# Altium footprint library PassiveSMD.PcbLib: 8 footprints
Each footprint in its own frame and in the unit in brackets; x right, y up, seen from the top. Pads: shape width x height; smd on the part's side, far side on the other; paste and mask are expansions set on the pad; w line width, h text height; cw(c..) or ccw(c..) is an arc to the next point about the centre after c.
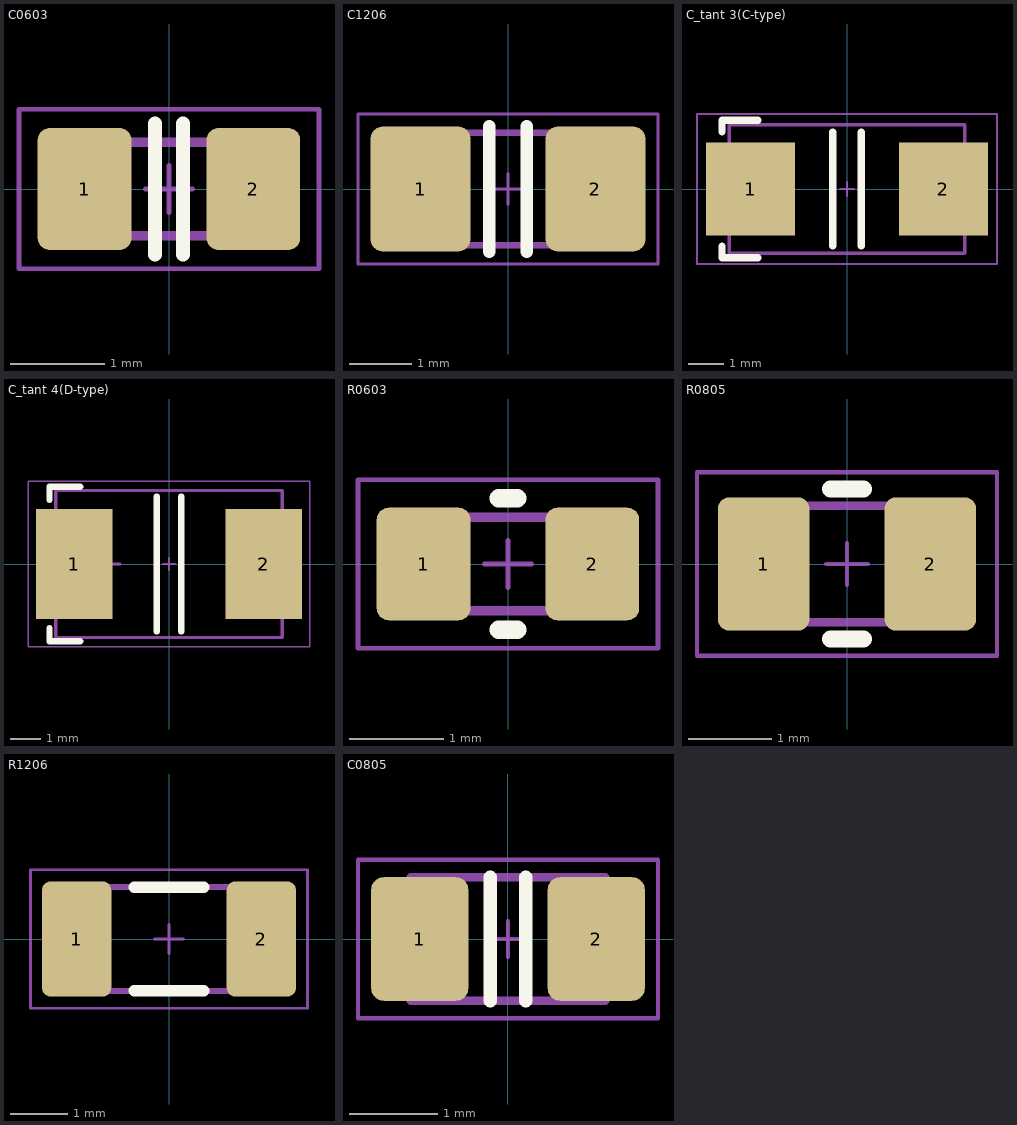
[diagram p0: the footprints below, top view; thin cyan lines are the x and y axes]

## C0603 [mm] "Chip Capasitor (0603), 2-Leads, Body 1,63x0,85mm, IPC Medium Density"
height 1.2
pads (2):
  rrect25% 1x1.3 smd: 1(-0.9,0) 2(0.9,0)
Top Overlay:
  lines w0.15: -0.15,-0.7 -0.15,0.7 ; 0.15,-0.7 0.15,0.7
Mechanical 13:
  lines w0.1: -0.9,-0.5 -0.9,0.5 0.9,0.5 0.9,-0.5 -0.9,-0.5
  text ".Designator" at -1.75,-1.5 h1
Mechanical 15:
  lines w0.05: -0.25,0 0.25,0 ; 0,-0.25 0,0.25 ; -1.6,-0.85 1.6,-0.85 1.6,0.85 -1.6,0.85 -1.6,-0.85
3D body: height 0.9, standoff 0, extent -0.9,-0.5 0.9,0.5

## C1206 [mm] "Chip Capacitor (1206), 2-Leads, Body 3,2x1,6mm, IPC Medium Density"
height 1.8
pads (2):
  rrect25% 1.6x2 smd: 1(-1.4,0) 2(1.4,0)
Top Overlay:
  lines w0.2: -0.3,-1 -0.3,1 ; 0.3,-1 0.3,1
Mechanical 13:
  lines w0.1: -1.7,-0.9 1.7,-0.9 1.7,0.9 -1.7,0.9 -1.7,-0.9
  text ".Designator" at -1.75,-2 h1
Mechanical 15:
  lines w0.05: -0.25,0 0.25,0 ; 0,-0.25 0,0.25 ; -2.4,-1.2 2.4,-1.2 2.4,1.2 -2.4,1.2 -2.4,-1.2
3D body: height 1.5, standoff 0, extent -1.7,-0.9 1.7,0.9

## C_tant 3(С-type) [mm] "Чип-конденсатор корп.3 (С-type)"
height 4
pads (2):
  rect 2.5x2.6 smd: 1(-2.7,0) 2(2.7,0)
Top Overlay:
  lines w0.2: -3.5,-1.6 -3.5,-1.925 -2.5,-1.925 ; -3.5,1.6 -3.5,1.925 -2.5,1.925 ; -0.4,-1.6 -0.4,1.6 ; 0.4,-1.6 0.4,1.6
Mechanical 13:
  lines w0.1: -2.9,0 -1.9,0 ; -2.4,-0.5 -2.4,0.5 ; -3.3,-1.8 -3.3,1.8 3.3,1.8 3.3,-1.8 -3.3,-1.8
  text ".Designator" at -2,-2.9 h1
Mechanical 15:
  lines w0.05: -0.2,0 0.2,0 ; 0,-0.2 0,0.2 ; -4.2,-2.1 -4.2,2.1 4.2,2.1 4.2,-2.1 -4.2,-2.1

## C_tant 4(D-type) [mm] "Чип-конденсатор корп.4 (D-type)"
height 4
pads (2):
  rect 2.5x3.6 smd: 1(-3.1,0) 2(3.1,0)
Top Overlay:
  lines w0.2: -3.9,-2.1 -3.9,-2.525 -2.9,-2.525 ; -3.9,2.1 -3.9,2.525 -2.9,2.525 ; -0.4,-2.2 -0.4,2.2 ; 0.4,-2.2 0.4,2.2
Mechanical 13:
  lines w0.1: -2.6,0 -1.6,0 ; -2.1,-0.5 -2.1,0.5 ; -3.7,-2.4 3.7,-2.4 3.7,2.4 -3.7,2.4 -3.7,-2.4
  text ".Designator" at -2.1,-3.6 h1
Mechanical 15:
  lines w0.05: -0.2,0 0.2,0 ; 0,-0.2 0,0.2 ; -4.6,-2.7 4.6,-2.7 4.6,2.7 -4.6,2.7 -4.6,-2.7

## R0603 [mm] "Chip Resistor (0603), 2-Leads, Body 1,6x0,85mm, IPC Medium Density"
height 0.5
pads (2):
  rrect25% 1x1.2 smd: 1(-0.9,0) 2(0.9,0)
Top Overlay:
  lines w0.2: -0.1,-0.7 0.1,-0.7 ; -0.1,0.7 0.1,0.7
Mechanical 13:
  lines w0.1: -0.9,-0.5 0.9,-0.5 0.9,0.5 -0.9,0.5 -0.9,-0.5
  text ".Designator" at -1.75,-1.5 h1
Mechanical 15:
  lines w0.05: -0.25,0 0.25,0 ; 0,-0.25 0,0.25 ; -1.6,-0.9 -1.6,0.9 1.6,0.9 1.6,-0.9 -1.6,-0.9
3D body: height 0.45, standoff 0, extent -0.9,-0.5 0.9,0.5

## R0805 [mm] "Chip Resistor (0805), 2-Leads, Body 2,1x1,3mm, IPC Medium Density"
height 0.6
pads (2):
  rrect25% 1.1x1.6 smd: 1(-1,0) 2(1,0)
Top Overlay:
  lines w0.2: -0.2,-0.9 0.2,-0.9 ; -0.2,0.9 0.2,0.9
Mechanical 13:
  lines w0.1: -1.1,-0.7 -1.1,0.7 1.1,0.7 1.1,-0.7 -1.1,-0.7
  text ".Designator" at -1.75,-1.75 h1
Mechanical 15:
  lines w0.05: -0.25,0 0.25,0 ; 0,-0.25 0,0.25 ; -1.8,-1.1 -1.8,1.1 1.8,1.1 1.8,-1.1 -1.8,-1.1
3D body: height 0.5, standoff 0, extent -1.1,-0.7 1.1,0.7

## R1206 [mm] "Chip Resistor (1206), 2-Leads, Body 3,1x1,6mm, IPC Medium Density"
pads (2):
  rrect25% 1.2x2 smd: 1(-1.6,0) 2(1.6,0)
Top Overlay:
  lines w0.2: -0.6,-0.9 0.6,-0.9 ; -0.6,0.9 0.6,0.9
Mechanical 13:
  lines w0.1: -1.7,-0.9 1.7,-0.9 1.7,0.9 -1.7,0.9 -1.7,-0.9
  text ".Designator" at -1.891,-1.797 h1
Mechanical 15:
  lines w0.05: -0.25,0 0.25,0 ; 0,-0.25 0,0.25 ; -2.4,-1.2 -2.4,1.2 2.4,1.2 2.4,-1.2 -2.4,-1.2
3D body: height 0.55, standoff 0, extent -1.7,-0.9 1.7,0.9

## С0805 [mm] "Chip Capacitor (0805), 2-Leads, Body 2,0x1,25mm, IPC Medium Density"
pads (2):
  rrect25% 1.1x1.4 smd: 1(-1,0) 2(1,0)
Top Overlay:
  lines w0.15: -0.2,-0.7 -0.2,0.7 ; 0.2,-0.7 0.2,0.7
Mechanical 13:
  lines w0.1: -1.1,-0.7 1.1,-0.7 1.1,0.7 -1.1,0.7 -1.1,-0.7
  text ".Designator" at -1.891,-1.547 h1
Mechanical 15:
  lines w0.05: -0.2,0 0.2,0 ; 0,-0.2 0,0.2 ; -1.7,-0.9 1.7,-0.9 1.7,0.9 -1.7,0.9 -1.7,-0.9
3D body: height 1.3, standoff 0, extent -1.1,-0.7 1.1,0.7